# Altium integrated library Maxim Peripheral Real Time Clock.IntLib: 1 symbol
Pins are listed as number, name and electrical type; pins without a type are passive.

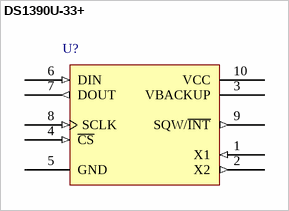
[diagram p0: symbol DS1390U-33+]

## DS1390U-33+
designator U?
Low-Voltage SPI/3-Wire Real-time Clock with Trickle Charger; Published: 30-May-2008; DatasheetVersion: Rev 1; 1/07; PackageVersion: revJ, Oct-2007; PackageReference: 10uSOP; Publisher: Altium Limited; PackageDescription: 10-Pin Thin Shrink Small Outline Package 0.5 mm Pitch; Code_JEDEC: MO-187C-BA; ComponentLink1Description: Manufacturer Link; ComponentLink1URL: http://www.maxim-ic.com/; ComponentLink2Description: Datasheet; ComponentLink2URL: http://datasheets.maxim-ic.com/en/ds/DS1390-DS1393.pdf
footprint 10uSOP_N (TSSOP, 10-Leads, Body 3x3mm, Pitch 0.5mm, IPC Medium Density)
footprint 10uSOP_L (TSSOP, 10-Leads, Body 3x3mm, Pitch 0.5mm, IPC High Density)
footprint 10uSOP_M (TSSOP, 10-Leads, Body 3x3mm, Pitch 0.5mm, IPC Low Density)
pins: 1 X1 (in), 2 X2 (out), 3 VBACKUP (power), 4 ~{CS} (in), 5 GND (power), 6 DIN (in), 7 DOUT (out), 8 SCLK (in), 9 SQW/~{INT} (out), 10 VCC (power)